# Altium schematic symbol library SCH - CONNECTORS - WURTH - 61201421621.Schlib: 1 symbol
Pins are listed as number, name and electrical type; pins without a type are passive.

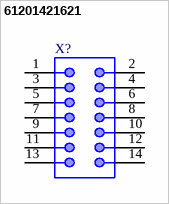
[diagram p0: symbol 61201421621]

## 61201421621
designator X?
Male Box Header WR-BHD, THT, Vertical, pitch 2.54 mm, 14 pins
pins: 1, 2, 3, 4, 5, 6, 7, 8, 9, 10, 11, 12, 13, 14